# EAGLE library part RXM-XXX-LR (library linx)
LR SERIES RECEIVER MODULE Source: http://www.linxtechnologies.com .. RXM-xxx-LR_Data_Guide.pdf
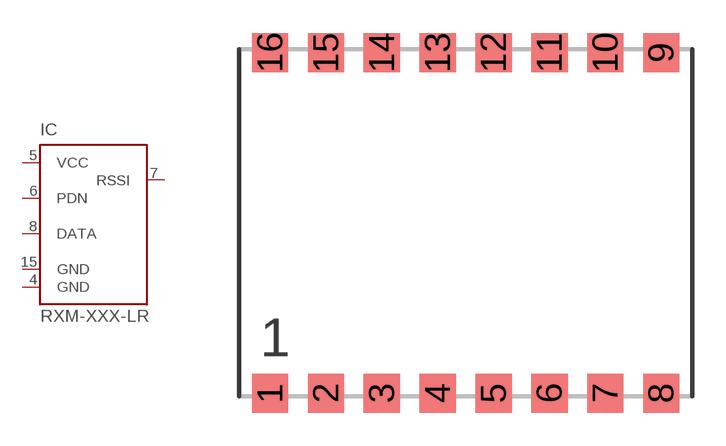
[diagram p0: symbol with the pads of RXM-XXX-LR; footprint RXM-XXX-LR]

Designator prefix IC

## RXM-XXX-LR (OC_FARNELL: unknown; OC_NEWARK: unknown)  [RXM-XXX-LR]
4  GND  pwr
5  VCC  pwr
6  PDN  in
7  RSSI  in
8  DATA  out
15  GND  pwr

## Footprint RXM-XXX-LR (pad centres in mm)
RXM-xxx-LR Source: All Packages.pdf
smd 1.651 x 1.778: 1 -8.89,-7.747; 2 -6.35,-7.747; 3 -3.81,-7.747; 4 -1.27,-7.747; 5 1.27,-7.747; 6 3.81,-7.747; 7 6.35,-7.747; 8 8.89,-7.747; 9 8.89,7.747; 10 6.35,7.747; 11 3.81,7.747; 12 1.27,7.747; 13 -1.27,7.747; 14 -3.81,7.747; 15 -6.35,7.747; 16 -8.89,7.747